# Altium footprint library 4.10-GH1.25连接器.PcbLib: 32 footprints (part 2 of 2)
Each footprint in its own frame and in the unit in brackets; x right, y up, seen from the top. Pads: shape width x height; smd on the part's side, far side on the other; paste and mask are expansions set on the pad; w line width, h text height; cw(c..) or ccw(c..) is an arc to the next point about the centre after c.
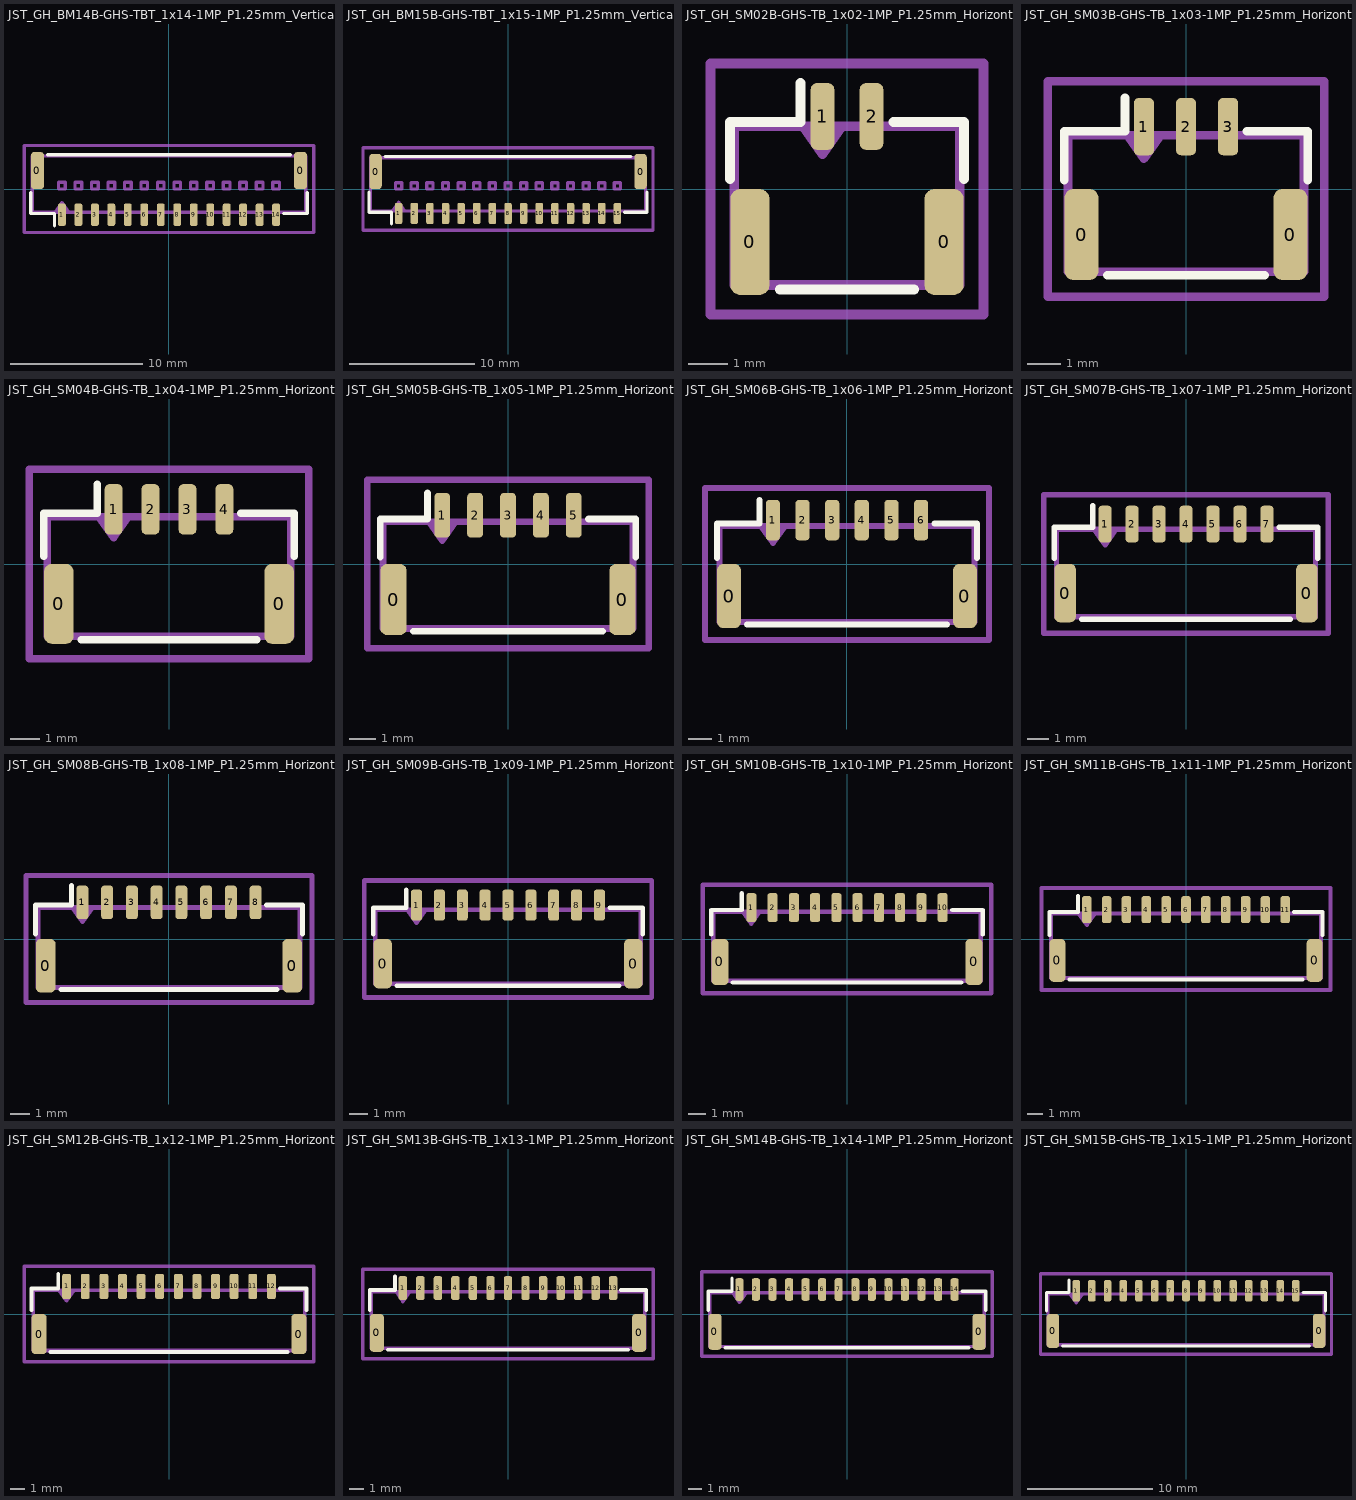
[diagram p1: the footprints below, top view; thin cyan lines are the x and y axes]

## JST_GH_BM14B-GHS-TBT_1x14-1MP_P1.25mm_Vertical [mm]
pads (16):
  rrect50% 1x2.8 smd paste+0 mask+0: 0(-9.975,1.4) 0(9.975,1.4)
  rrect50% 0.6x1.7 smd paste+0 mask+0: 1(-8.125,-1.95) 2(-6.875,-1.95) 3(-5.625,-1.95) 4(-4.375,-1.95) 5(-3.125,-1.95) 6(-1.875,-1.95) 7(-0.625,-1.95) 8(0.625,-1.95) 9(1.875,-1.95) 10(3.125,-1.95) 11(4.375,-1.95) 12(5.625,-1.95) 13(6.875,-1.95) 14(8.125,-1.95)
Top Overlay:
  lines w0.254: -10.485,-0.26 -10.485,-1.86 -8.685,-1.86 -8.685,-2.8 ; -9.215,2.61 9.215,2.61 ; 8.685,-1.86 10.485,-1.86 10.485,-0.26
Mechanical 6:
  lines w0.254: -10.98,-3.3 -10.98,3.3 10.98,3.3 10.98,-3.3 -10.98,-3.3
Mechanical 15:
  lines w0.254: -8.625,-1.75 -8.125,-1.043 -7.625,-1.75 ; -10.375,-1.75 -10.375,2.5 10.375,2.5 10.375,-1.75 -10.375,-1.75 ; -8.375,0 -8.375,0.5 -7.875,0.5 -7.875,0 -8.375,0 ; -7.125,0 -7.125,0.5 -6.625,0.5 -6.625,0 -7.125,0 ; -5.875,0 -5.875,0.5 -5.375,0.5 -5.375,0 -5.875,0 ; -4.625,0 -4.625,0.5 -4.125,0.5 -4.125,0 -4.625,0 ; -3.375,0 -3.375,0.5 -2.875,0.5 -2.875,0 -3.375,0 ; -2.125,0 -2.125,0.5 -1.625,0.5 -1.625,0 -2.125,0 ; -0.875,0 -0.875,0.5 -0.375,0.5 -0.375,0 -0.875,0 ; 0.375,0 0.375,0.5 0.875,0.5 0.875,0 0.375,0 ; 1.625,0 1.625,0.5 2.125,0.5 2.125,0 1.625,0 ; 2.875,0 2.875,0.5 3.375,0.5 3.375,0 2.875,0 ; 4.125,0 4.125,0.5 4.625,0.5 4.625,0 4.125,0 ; 5.375,0 5.375,0.5 5.875,0.5 5.875,0 5.375,0 ; 6.625,0 6.625,0.5 7.125,0.5 7.125,0 6.625,0 ; 7.875,0 7.875,0.5 8.375,0.5 8.375,0 7.875,0

## JST_GH_BM15B-GHS-TBT_1x15-1MP_P1.25mm_Vertical [mm]
pads (17):
  rrect50% 1x2.8 smd paste+0 mask+0: 0(-10.6,1.4) 0(10.6,1.4)
  rrect50% 0.6x1.7 smd paste+0 mask+0: 1(-8.75,-1.95) 2(-7.5,-1.95) 3(-6.25,-1.95) 4(-5,-1.95) 5(-3.75,-1.95) 6(-2.5,-1.95) 7(-1.25,-1.95) 8(0,-1.95) 9(1.25,-1.95) 10(2.5,-1.95) 11(3.75,-1.95) 12(5,-1.95) 13(6.25,-1.95) 14(7.5,-1.95) 15(8.75,-1.95)
Top Overlay:
  lines w0.254: -11.11,-0.26 -11.11,-1.86 -9.31,-1.86 -9.31,-2.8 ; -9.84,2.61 9.84,2.61 ; 9.31,-1.86 11.11,-1.86 11.11,-0.26
Mechanical 6:
  lines w0.254: -11.6,-3.3 11.6,-3.3 11.6,3.3 -11.6,3.3 -11.6,-3.3
Mechanical 15:
  lines w0.254: -9.25,-1.75 -8.75,-1.043 -8.25,-1.75 ; -11,-1.75 11,-1.75 11,2.5 -11,2.5 -11,-1.75 ; -9,0 -8.5,0 -8.5,0.5 -9,0.5 -9,0 ; -7.75,0 -7.25,0 -7.25,0.5 -7.75,0.5 -7.75,0 ; -6.5,0 -6,0 -6,0.5 -6.5,0.5 -6.5,0 ; -5.25,0 -4.75,0 -4.75,0.5 -5.25,0.5 -5.25,0 ; -4,0 -3.5,0 -3.5,0.5 -4,0.5 -4,0 ; -2.75,0 -2.25,0 -2.25,0.5 -2.75,0.5 -2.75,0 ; -1.5,0 -1,0 -1,0.5 -1.5,0.5 -1.5,0 ; -0.25,0 0.25,0 0.25,0.5 -0.25,0.5 -0.25,0 ; 1,0 1.5,0 1.5,0.5 1,0.5 1,0 ; 2.25,0 2.75,0 2.75,0.5 2.25,0.5 2.25,0 ; 3.5,0 4,0 4,0.5 3.5,0.5 3.5,0 ; 4.75,0 5.25,0 5.25,0.5 4.75,0.5 4.75,0 ; 6,0 6.5,0 6.5,0.5 6,0.5 6,0 ; 7.25,0 7.75,0 7.75,0.5 7.25,0.5 7.25,0 ; 8.5,0 9,0 9,0.5 8.5,0.5 8.5,0

## JST_GH_SM02B-GHS-TB_1x02-1MP_P1.25mm_Horizontal [mm]
pads (4):
  rrect50% 1x2.7 smd paste+0 mask+0: 0(-2.475,-1.35) 0(2.475,-1.35)
  rrect50% 0.6x1.7 smd paste+0 mask+0: 1(-0.625,1.85) 2(0.625,1.85)
Top Overlay:
  lines w0.254: -2.985,0.26 -2.985,1.71 -1.185,1.71 -1.185,2.7 ; -1.715,-2.56 1.715,-2.56 ; 1.185,1.71 2.985,1.71 2.985,0.26
Mechanical 6:
  lines w0.254: -3.48,-3.2 3.48,-3.2 3.48,3.2 -3.48,3.2 -3.48,-3.2
Mechanical 15:
  lines w0.254: -1.125,1.6 -0.625,0.893 -0.125,1.6 ; -2.875,-2.45 2.875,-2.45 2.875,1.6 -2.875,1.6 -2.875,-2.45
3D body "GH1.25-WT-2P.stp": height 4.26, standoff 0, extent -2.874,-2.656 2.874,2.203

## JST_GH_SM03B-GHS-TB_1x03-1MP_P1.25mm_Horizontal [mm]
pads (5):
  rrect50% 1x2.7 smd paste+0 mask+0: 0(-3.1,-1.35) 0(3.1,-1.35)
  rrect50% 0.6x1.7 smd paste+0 mask+0: 1(-1.25,1.85) 2(0,1.85) 3(1.25,1.85)
Top Overlay:
  lines w0.254: -3.61,0.26 -3.61,1.71 -1.81,1.71 -1.81,2.7 ; -2.34,-2.56 2.34,-2.56 ; 1.81,1.71 3.61,1.71 3.61,0.26
Mechanical 6:
  lines w0.254: -4.1,-3.2 4.1,-3.2 4.1,3.2 -4.1,3.2 -4.1,-3.2
Mechanical 15:
  lines w0.254: -1.75,1.6 -1.25,0.893 -0.75,1.6 ; -3.5,-2.45 3.5,-2.45 3.5,1.6 -3.5,1.6 -3.5,-2.45
3D body "GH1.25-WT-3P.stp": height 4.26, standoff 0, extent -3.499,-2.656 3.499,2.203

## JST_GH_SM04B-GHS-TB_1x04-1MP_P1.25mm_Horizontal [mm]
pads (6):
  rrect50% 1x2.7 smd paste+0 mask+0: 0(-3.725,-1.35) 0(3.725,-1.35)
  rrect50% 0.6x1.7 smd paste+0 mask+0: 1(-1.875,1.85) 2(-0.625,1.85) 3(0.625,1.85) 4(1.875,1.85)
Top Overlay:
  lines w0.254: -4.235,0.26 -4.235,1.71 -2.435,1.71 -2.435,2.7 ; -2.965,-2.56 2.965,-2.56 ; 2.435,1.71 4.235,1.71 4.235,0.26
Mechanical 6:
  lines w0.254: -4.72,-3.2 -4.72,3.2 4.72,3.2 4.72,-3.2 -4.72,-3.2
Mechanical 15:
  lines w0.254: -2.375,1.6 -1.875,0.893 -1.375,1.6 ; -4.125,-2.45 -4.125,1.6 4.125,1.6 4.125,-2.45 -4.125,-2.45

## JST_GH_SM05B-GHS-TB_1x05-1MP_P1.25mm_Horizontal [mm]
pads (7):
  rrect50% 1x2.7 smd paste+0 mask+0: 0(-4.35,-1.35) 0(4.35,-1.35)
  rrect50% 0.6x1.7 smd paste+0 mask+0: 1(-2.5,1.85) 2(-1.25,1.85) 3(0,1.85) 4(1.25,1.85) 5(2.5,1.85)
Top Overlay:
  lines w0.254: -4.86,0.26 -4.86,1.71 -3.06,1.71 -3.06,2.7 ; -3.59,-2.56 3.59,-2.56 ; 3.06,1.71 4.86,1.71 4.86,0.26
Mechanical 6:
  lines w0.254: -5.35,-3.2 5.35,-3.2 5.35,3.2 -5.35,3.2 -5.35,-3.2
Mechanical 15:
  lines w0.254: -3,1.6 -2.5,0.893 -2,1.6 ; -4.75,-2.45 4.75,-2.45 4.75,1.6 -4.75,1.6 -4.75,-2.45
3D body "SM05B-GHS-TB_LF__SN_.stp": height 4.45, standoff 0, extent -4.75,-2.575 4.75,2.275

## JST_GH_SM06B-GHS-TB_1x06-1MP_P1.25mm_Horizontal [mm]
pads (8):
  rrect50% 1x2.7 smd paste+0 mask+0: 0(-4.975,-1.35) 0(4.975,-1.35)
  rrect50% 0.6x1.7 smd paste+0 mask+0: 1(-3.125,1.85) 2(-1.875,1.85) 3(-0.625,1.85) 4(0.625,1.85) 5(1.875,1.85) 6(3.125,1.85)
Top Overlay:
  lines w0.254: -5.485,0.26 -5.485,1.71 -3.685,1.71 -3.685,2.7 ; -4.215,-2.56 4.215,-2.56 ; 3.685,1.71 5.485,1.71 5.485,0.26
Mechanical 6:
  lines w0.254: -5.98,-3.2 5.98,-3.2 5.98,3.2 -5.98,3.2 -5.98,-3.2
Mechanical 15:
  lines w0.254: -3.625,1.6 -3.125,0.893 -2.625,1.6 ; -5.375,-2.45 5.375,-2.45 5.375,1.6 -5.375,1.6 -5.375,-2.45
3D body "SM06B-GHS-TB_LF__SN_.stp": height 4.25, standoff 0, extent -5.374,-2.521 5.376,2.329

## JST_GH_SM07B-GHS-TB_1x07-1MP_P1.25mm_Horizontal [mm]
pads (9):
  rrect50% 1x2.7 smd paste+0 mask+0: 0(-5.6,-1.35) 0(5.6,-1.35)
  rrect50% 0.6x1.7 smd paste+0 mask+0: 1(-3.75,1.85) 2(-2.5,1.85) 3(-1.25,1.85) 4(0,1.85) 5(1.25,1.85) 6(2.5,1.85) 7(3.75,1.85)
Top Overlay:
  lines w0.254: -6.11,0.26 -6.11,1.71 -4.31,1.71 -4.31,2.7 ; -4.84,-2.56 4.84,-2.56 ; 4.31,1.71 6.11,1.71 6.11,0.26
Mechanical 6:
  lines w0.254: -6.6,-3.2 6.6,-3.2 6.6,3.2 -6.6,3.2 -6.6,-3.2
Mechanical 15:
  lines w0.254: -4.25,1.6 -3.75,0.893 -3.25,1.6 ; -6,-2.45 6,-2.45 6,1.6 -6,1.6 -6,-2.45

## JST_GH_SM08B-GHS-TB_1x08-1MP_P1.25mm_Horizontal [mm]
pads (10):
  rrect50% 1x2.7 smd paste+0 mask+0: 0(-6.225,-1.35) 0(6.225,-1.35)
  rrect50% 0.6x1.7 smd paste+0 mask+0: 1(-4.375,1.85) 2(-3.125,1.85) 3(-1.875,1.85) 4(-0.625,1.85) 5(0.625,1.85) 6(1.875,1.85) 7(3.125,1.85) 8(4.375,1.85)
Top Overlay:
  lines w0.254: -6.735,0.26 -6.735,1.71 -4.935,1.71 -4.935,2.7 ; -5.465,-2.56 5.465,-2.56 ; 4.935,1.71 6.735,1.71 6.735,0.26
Mechanical 6:
  lines w0.254: -7.22,-3.2 -7.22,3.2 7.22,3.2 7.22,-3.2 -7.22,-3.2
Mechanical 15:
  lines w0.254: -4.875,1.6 -4.375,0.893 -3.875,1.6 ; -6.625,-2.45 -6.625,1.6 6.625,1.6 6.625,-2.45 -6.625,-2.45

## JST_GH_SM09B-GHS-TB_1x09-1MP_P1.25mm_Horizontal [mm]
pads (11):
  rrect50% 1x2.7 smd paste+0 mask+0: 0(-6.85,-1.35) 0(6.85,-1.35)
  rrect50% 0.6x1.7 smd paste+0 mask+0: 1(-5,1.85) 2(-3.75,1.85) 3(-2.5,1.85) 4(-1.25,1.85) 5(0,1.85) 6(1.25,1.85) 7(2.5,1.85) 8(3.75,1.85) 9(5,1.85)
Top Overlay:
  lines w0.254: -7.36,0.26 -7.36,1.71 -5.56,1.71 -5.56,2.7 ; -6.09,-2.56 6.09,-2.56 ; 5.56,1.71 7.36,1.71 7.36,0.26
Mechanical 6:
  lines w0.254: -7.85,-3.2 7.85,-3.2 7.85,3.2 -7.85,3.2 -7.85,-3.2
Mechanical 15:
  lines w0.254: -5.5,1.6 -5,0.893 -4.5,1.6 ; -7.25,-2.45 7.25,-2.45 7.25,1.6 -7.25,1.6 -7.25,-2.45

## JST_GH_SM10B-GHS-TB_1x10-1MP_P1.25mm_Horizontal [mm]
pads (12):
  rrect50% 1x2.7 smd paste+0 mask+0: 0(-7.475,-1.35) 0(7.475,-1.35)
  rrect50% 0.6x1.7 smd paste+0 mask+0: 1(-5.625,1.85) 2(-4.375,1.85) 3(-3.125,1.85) 4(-1.875,1.85) 5(-0.625,1.85) 6(0.625,1.85) 7(1.875,1.85) 8(3.125,1.85) 9(4.375,1.85) 10(5.625,1.85)
Top Overlay:
  lines w0.254: -7.985,0.26 -7.985,1.71 -6.185,1.71 -6.185,2.7 ; -6.715,-2.56 6.715,-2.56 ; 6.185,1.71 7.985,1.71 7.985,0.26
Mechanical 6:
  lines w0.254: -8.48,-3.2 -8.48,3.2 8.48,3.2 8.48,-3.2 -8.48,-3.2
Mechanical 15:
  lines w0.254: -6.125,1.6 -5.625,0.893 -5.125,1.6 ; -7.875,-2.45 -7.875,1.6 7.875,1.6 7.875,-2.45 -7.875,-2.45

## JST_GH_SM11B-GHS-TB_1x11-1MP_P1.25mm_Horizontal [mm]
pads (13):
  rrect50% 1x2.7 smd paste+0 mask+0: 0(-8.1,-1.35) 0(8.1,-1.35)
  rrect50% 0.6x1.7 smd paste+0 mask+0: 1(-6.25,1.85) 2(-5,1.85) 3(-3.75,1.85) 4(-2.5,1.85) 5(-1.25,1.85) 6(0,1.85) 7(1.25,1.85) 8(2.5,1.85) 9(3.75,1.85) 10(5,1.85) 11(6.25,1.85)
Top Overlay:
  lines w0.254: -8.61,0.26 -8.61,1.71 -6.81,1.71 -6.81,2.7 ; -7.34,-2.56 7.34,-2.56 ; 6.81,1.71 8.61,1.71 8.61,0.26
Mechanical 6:
  lines w0.254: -9.1,-3.2 9.1,-3.2 9.1,3.2 -9.1,3.2 -9.1,-3.2
Mechanical 15:
  lines w0.254: -6.75,1.6 -6.25,0.893 -5.75,1.6 ; -8.5,-2.45 8.5,-2.45 8.5,1.6 -8.5,1.6 -8.5,-2.45

## JST_GH_SM12B-GHS-TB_1x12-1MP_P1.25mm_Horizontal [mm]
pads (14):
  rrect50% 1x2.7 smd paste+0 mask+0: 0(-8.725,-1.35) 0(8.725,-1.35)
  rrect50% 0.6x1.7 smd paste+0 mask+0: 1(-6.875,1.85) 2(-5.625,1.85) 3(-4.375,1.85) 4(-3.125,1.85) 5(-1.875,1.85) 6(-0.625,1.85) 7(0.625,1.85) 8(1.875,1.85) 9(3.125,1.85) 10(4.375,1.85) 11(5.625,1.85) 12(6.875,1.85)
Top Overlay:
  lines w0.254: -9.235,0.26 -9.235,1.71 -7.435,1.71 -7.435,2.7 ; -7.965,-2.56 7.965,-2.56 ; 7.435,1.71 9.235,1.71 9.235,0.26
Mechanical 6:
  lines w0.254: -9.72,-3.2 9.72,-3.2 9.72,3.2 -9.72,3.2 -9.72,-3.2
Mechanical 15:
  lines w0.254: -7.375,1.6 -6.875,0.893 -6.375,1.6 ; -9.125,-2.45 9.125,-2.45 9.125,1.6 -9.125,1.6 -9.125,-2.45

## JST_GH_SM13B-GHS-TB_1x13-1MP_P1.25mm_Horizontal [mm]
pads (15):
  rrect50% 1x2.7 smd paste+0 mask+0: 0(-9.35,-1.35) 0(9.35,-1.35)
  rrect50% 0.6x1.7 smd paste+0 mask+0: 1(-7.5,1.85) 2(-6.25,1.85) 3(-5,1.85) 4(-3.75,1.85) 5(-2.5,1.85) 6(-1.25,1.85) 7(0,1.85) 8(1.25,1.85) 9(2.5,1.85) 10(3.75,1.85) 11(5,1.85) 12(6.25,1.85) 13(7.5,1.85)
Top Overlay:
  lines w0.254: -9.86,0.26 -9.86,1.71 -8.06,1.71 -8.06,2.7 ; -8.59,-2.56 8.59,-2.56 ; 8.06,1.71 9.86,1.71 9.86,0.26
Mechanical 6:
  lines w0.254: -10.35,-3.2 10.35,-3.2 10.35,3.2 -10.35,3.2 -10.35,-3.2
Mechanical 15:
  lines w0.254: -8,1.6 -7.5,0.893 -7,1.6 ; -9.75,-2.45 9.75,-2.45 9.75,1.6 -9.75,1.6 -9.75,-2.45

## JST_GH_SM14B-GHS-TB_1x14-1MP_P1.25mm_Horizontal [mm]
pads (16):
  rrect50% 1x2.7 smd paste+0 mask+0: 0(-9.975,-1.35) 0(9.975,-1.35)
  rrect50% 0.6x1.7 smd paste+0 mask+0: 1(-8.125,1.85) 2(-6.875,1.85) 3(-5.625,1.85) 4(-4.375,1.85) 5(-3.125,1.85) 6(-1.875,1.85) 7(-0.625,1.85) 8(0.625,1.85) 9(1.875,1.85) 10(3.125,1.85) 11(4.375,1.85) 12(5.625,1.85) 13(6.875,1.85) 14(8.125,1.85)
Top Overlay:
  lines w0.254: -10.485,0.26 -10.485,1.71 -8.685,1.71 -8.685,2.7 ; -9.215,-2.56 9.215,-2.56 ; 8.685,1.71 10.485,1.71 10.485,0.26
Mechanical 6:
  lines w0.254: -10.98,-3.2 10.98,-3.2 10.98,3.2 -10.98,3.2 -10.98,-3.2
Mechanical 15:
  lines w0.254: -8.625,1.6 -8.125,0.893 -7.625,1.6 ; -10.375,-2.45 10.375,-2.45 10.375,1.6 -10.375,1.6 -10.375,-2.45

## JST_GH_SM15B-GHS-TB_1x15-1MP_P1.25mm_Horizontal [mm]
pads (17):
  rrect50% 1x2.7 smd paste+0 mask+0: 0(-10.6,-1.35) 0(10.6,-1.35)
  rrect50% 0.6x1.7 smd paste+0 mask+0: 1(-8.75,1.85) 2(-7.5,1.85) 3(-6.25,1.85) 4(-5,1.85) 5(-3.75,1.85) 6(-2.5,1.85) 7(-1.25,1.85) 8(0,1.85) 9(1.25,1.85) 10(2.5,1.85) 11(3.75,1.85) 12(5,1.85) 13(6.25,1.85) 14(7.5,1.85) 15(8.75,1.85)
Top Overlay:
  lines w0.254: -11.11,0.26 -11.11,1.71 -9.31,1.71 -9.31,2.7 ; -9.84,-2.56 9.84,-2.56 ; 9.31,1.71 11.11,1.71 11.11,0.26
Mechanical 6:
  lines w0.254: -11.6,-3.2 11.6,-3.2 11.6,3.2 -11.6,3.2 -11.6,-3.2
Mechanical 15:
  lines w0.254: -9.25,1.6 -8.75,0.893 -8.25,1.6 ; -11,-2.45 11,-2.45 11,1.6 -11,1.6 -11,-2.45